# Altium integrated library I2C_Shield.IntLib: 21 symbols
Pins are listed as number, name and electrical type; pins without a type are passive.

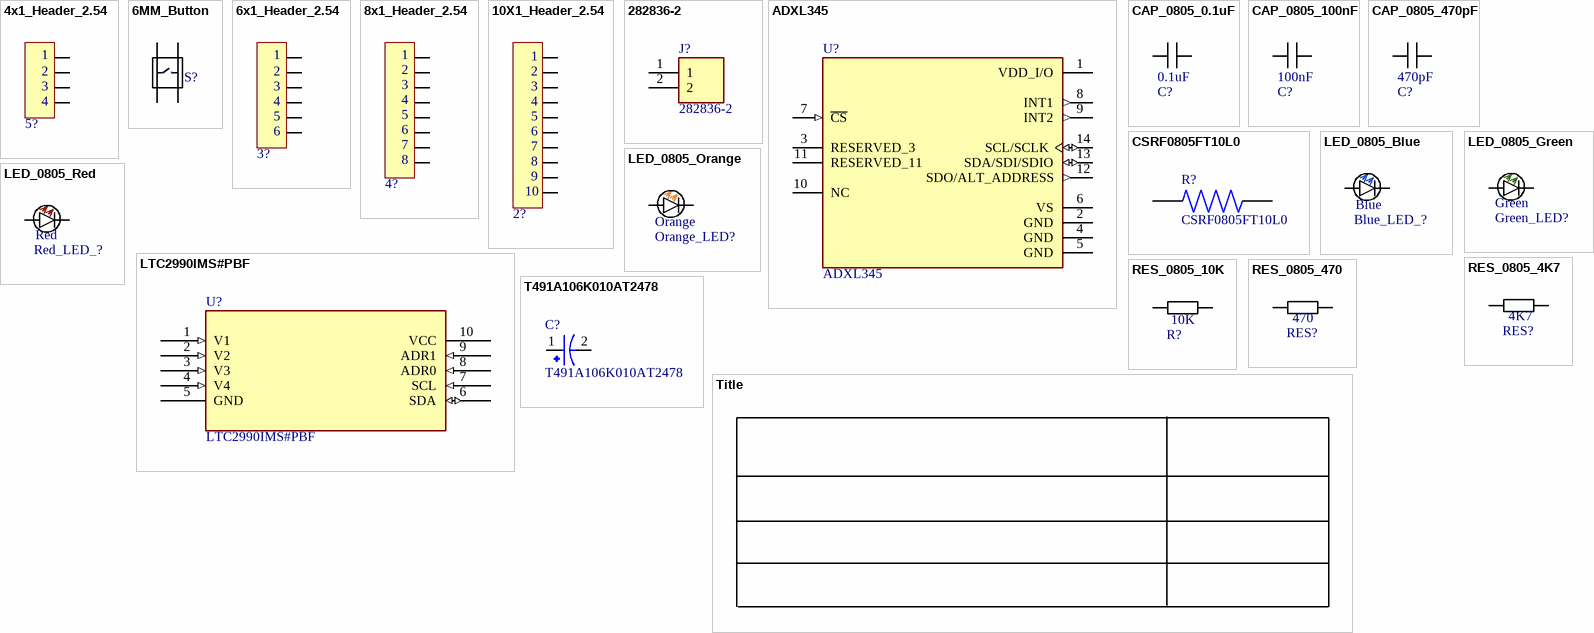
[diagram p0: symbols 4x1_Header_2.54 to Title]

## 4x1_Header_2.54
designator 5?  (value not drawn)
footprint 4X1_HEADER
pins: 16, 17, 18, 19
text: 1; 2; 3; 4

## 6MM_Button
designator S?  (value not drawn)
footprint BUTTON
pins: 1, 2, 3, 4

## 6x1_Header_2.54
designator 3?  (value not drawn)
footprint 6X1_HEADER
pins: 16, 17, 18, 19, 20, 21
text: 1; 2; 3; 4; 5; 6

## 8x1_Header_2.54
designator 4?  (value not drawn)
footprint 8x1_HEADER
pins: 0, 1, 2, 3, 4, 5, 6, 7
text: 8

## 10X1_Header_2.54
designator 2?  (value not drawn)
footprint 10X1_HEADER
pins: 8, 9, 10, 11, 12, 13, 14, 15, 16, 17
text: 1; 2; 3; 4; 5; 6; 7

## 282836-2
designator J?
Connector, Terminal Block; Wire Receptacle; 2 Pos.; 16-30 AWG; 0.197 in. CL; Sid; MF: TE Connectivity; Purchase-URL: https://pricing.snapeda.com/search/part/282836-2/?ref=eda; Value: *; MP: 282836-2; Package: None; Check_prices: https://www.snapeda.com/parts/282836-2/TE+Connectivity+AMP+Connectors/view-part/?ref=eda; Price: None; SnapEDA_Link: https://www.snapeda.com/parts/282836-2/TE+Connectivity+AMP+Connectors/view-part/?ref=snap; Availability: In Stock
footprint TE_282836-2
pins: 1, 2

## ADXL345
designator U?
Accelerometer X, Y, Z Axis ±2g, 4g, 8g, 16g 0.05Hz ~ 1.6kHz 14-LGA (3x5); MF: Analog Devices, Inc.; SnapEDA_Link: https://www.snapeda.com/parts/ADXL345/Analog+Devices/view-part/?ref=snap; Package: LGA -14 Analog Devices; Value: *; MP: ADXL345; Check_prices: https://www.snapeda.com/parts/ADXL345/Analog+Devices/view-part/?ref=eda
footprint PQFN80P500X300X100-14N
pins: 1 VDD_I/O (power), 2 GND (power), 3 RESERVED_3, 4 GND (power), 5 GND (power), 6 VS (power), 7 ~{CS} (in), 8 INT1 (out), 9 INT2 (out), 10 NC, 11 RESERVED_11, 12 SDO/ALT_ADDRESS (out), 13 SDA/SDI/SDIO (io), 14 SCL/SCLK (io)

## CAP_0805_0.1uF
designator C?  (value not drawn)
footprint CAP_0805
pins: 0, 1
text: 0.1uF

## CAP_0805_100nF
designator C?, comment CAP_0805_100nF*  (value not drawn)
footprint CAP_0805
pins: 0, 1
text: 100nF

## CAP_0805_470pF
designator C?  (value not drawn)
footprint CAP_0805
pins: 0, 1
text: 470pF

## CSRF0805FT10L0
designator R?
10 mOhms Â±1% 0.5W, 1/2W Chip Resistor 0805 (2012 Metric) Automotive AEC-Q200, Current Sense, Moisture Resistant Metal Foil; MF: Stackpole Electronics; SnapEDA_Link: https://www.snapeda.com/parts/CSRF0805FT10L0/Stackpole+Electronics/view-part/?ref=snap; Package: 0805 Stackpole Electronics; Value: *; MP: CSRF0805FT10L0; Check_prices: https://www.snapeda.com/parts/CSRF0805FT10L0/Stackpole+Electronics/view-part/?ref=eda
footprint RESC2113X85N
pins: 1, 2

## LED_0805_Blue
designator Blue_LED_?  (value not drawn)
pins: 0, 1
text: Blue

## LED_0805_Green
designator Green_LED?  (value not drawn)
pins: 0, 1
text: Green

## LED_0805_Orange
designator Orange_LED?  (value not drawn)
pins: 0, 1
text: Orange

## LED_0805_Red
designator Red_LED_?  (value not drawn)
pins: 0, 1
text: Red

## LTC2990IMS#PBF
designator U?
Quad I2C Voltage, Current and Temperature Monitor; MF: Analog Devices; Package: MSOP-10 Analog Devices; Price: None; Check_prices: https://www.snapeda.com/parts/LTC2990IMS%23PBF/Analog+Devices/view-part/?ref=eda; Value: *; SnapEDA_Link: https://www.snapeda.com/parts/LTC2990IMS%23PBF/Analog+Devices/view-part/?ref=snap; MP: LTC2990IMS#PBF; Availability: In Stock; Purchase-URL: https://pricing.snapeda.com/search?q=LTC2990IMS#PBF&ref=eda
footprint MSOP-10_MS
pins: 1 V1 (in), 2 V2 (in), 3 V3 (in), 4 V4 (in), 5 GND (power), 6 SDA (io), 7 SCL (in), 8 ADR0 (in), 9 ADR1 (in), 10 VCC (power)

## RES_0805_4K7
designator RES?  (value not drawn)
footprint RES_0805 (Chip Resistor, 2-Leads, Body 2,00x1,25mm, IPC Medium Density)
pins: 0 1, 1 0
text: 4K7

## RES_0805_10K
designator R?  (value not drawn)
0805 10K Ohms 5% 1/8W 100PPM SMT
footprint RES_0805 (Chip Resistor, 2-Leads, Body 2,00x1,25mm, IPC Medium Density)
pins: 0 1, 1 0
text: 10K

## RES_0805_470
designator RES?  (value not drawn)
footprint RES_0805 (Chip Resistor, 2-Leads, Body 2,00x1,25mm, IPC Medium Density)
pins: 0 1, 1 0
text: 470

## T491A106K010AT2478
designator C?
10 ÂµF Molded Tantalum Capacitors 10 V 1206 (3216 Metric) 3.8Ohm; MF: KEMET; Price: None; Value: *; MP: T491A106K010AT2478; Package: SMD-2 KEMET; Purchase-URL: https://pricing.snapeda.com/search/part/T491A106K010AT2478/?ref=eda; SnapEDA_Link: https://www.snapeda.com/parts/T491A106K010AT2478/KEMET/view-part/?ref=snap; Check_prices: https://www.snapeda.com/parts/T491A106K010AT2478/KEMET/view-part/?ref=eda; Availability: In Stock
footprint CAPMP3216X180N
pins: 1, 2

## Title
designator *?  (value not drawn)  (graphical)